# EAGLE library part S6B_ZR (library connector)
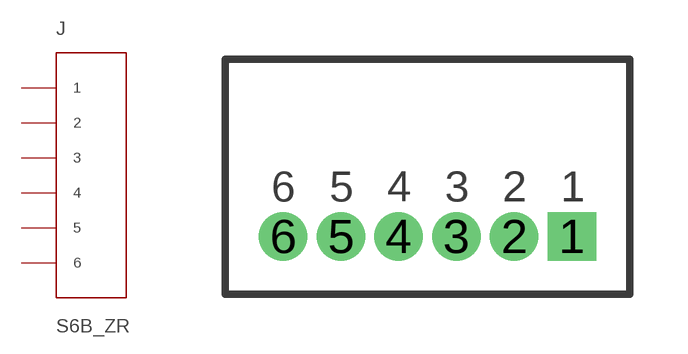
[diagram p8: symbol with the pads of S6B_ZR; footprint S6B_ZR]

Designator prefix J

## S6B_ZR  [S6B_ZR]
1  1
2  2
3  3
4  4
5  5
6  6

## Footprint S6B_ZR (pad centres in mm)
drill 0.75 square: 1 0,0
drill 0.75: 2 -1.5,0; 3 -3,0; 4 -4.5,0; 5 -6,0; 6 -7.5,0